# Altium schematic symbol library SO-0815-03-01-01-N.SchLib: 1 symbol
Pins are listed as number, name and electrical type; pins without a type are passive.

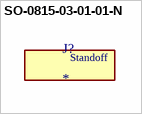
[diagram p0: symbol SO-0815-03-01-01-N]

## SO-0815-03-01-01-N
designator J?
MP: SO-0815-03-01-01-N; MF: {'manufacturer': u'Samtec'}; Availability: Unavailable; Package: None; Price: None; Value: *
text: Standoff